# EAGLE library part ATX-PWR (library kmod-connectors)
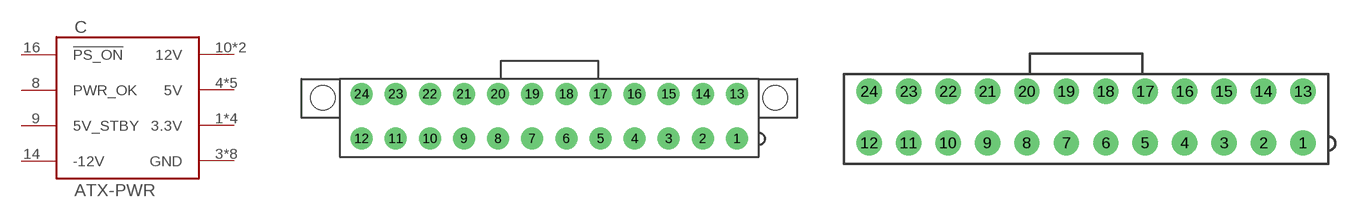
[diagram p13: symbol with the pads of ATX-24-VERT; footprints ATX-24-VERT, ATX-24-VERT-NOPEGS]

Designator prefix C

## ATX-PWRVERT  [ATX-24-VERT]
1  3.3V
2  3.3V
3  GND
4  5V
5  GND
6  5V
7  GND
8  PWR_OK
9  5V_STBY
10  12V
11  12V
12  3.3V
13  3.3V
14  -12V
15  GND
16  !PS_ON
17  GND
18  GND
19  GND
21  5V
22  5V
23  5V
24  GND

## ATX-PWRVERT-NOPEGS  [ATX-24-VERT-NOPEGS]
Pads as for ATX-24-VERT

## Footprint ATX-24-VERT (pad centres in mm)
Mini-Fit Jr. 5566 24-pin vertical header Suitable for ATX 24 pin connectors Verified the footprint for these parts http://www.digikey.com/product-detail/en/39-30-6247/WM17756-ND/1633828 http://www.digikey.com/product-detail/en/0442060007/WM9738-ND/3311018 http://www.digikey.com/product-detail/en/39-29-9246/WM3874-ND/2002680 Which have these drawings: http://www.molex.com/pdm_docs/sd/039306027_sd.pdf http://www.molex.com/pdm_docs/sd/442060007_sd.pdf http://www.molex.com/pdm_docs/sd/039299246_sd.pdf The right-angle connector specifies a 1.8mm drill but the vertical one specifies a 1.4mm drill, so just using a 1.8mm drill for now.
drill 1.8: 1 23.1,-5.5; 2 18.9,-5.5; 3 14.7,-5.5; 4 10.5,-5.5; 5 6.3,-5.5; 6 2.1,-5.5; 7 -2.1,-5.5; 8 -6.3,-5.5; 9 -10.5,-5.5; 10 -14.7,-5.5; 11 -18.9,-5.5; 12 -23.1,-5.5; 13 23.1,0; 14 18.9,0; 15 14.7,0; 16 10.5,0; 17 6.3,0; 18 2.1,0; 19 -2.1,0; 20 -6.3,0; 21 -10.5,0; 22 -14.7,0; 23 -18.9,0; 24 -23.1,0
hole 3 at 27.8,-0.46
hole 3 at -27.9,-0.46

## Footprint ATX-24-VERT-NOPEGS (pad centres in mm)
Mini-Fit Jr. 5566 / TE VAL-U-LOK 24-pin vertical header, without board pegs Suitable for ATX 24 pin connectors Verified the footprint for these parts http://www.digikey.com/product-detail/en/2-1586037-4/A30613-ND/701618 http://www.digikey.com/product-detail/en/0039281243/WM3811-ND/356033 Which have these drawings: http://www.te.com/commerce/DocumentDelivery/DDEController?Action=srchrtrv&DocNm=1586037&DocType=Customer+Drawing&DocLang=English http://www.molex.com/pdm_docs/sd/039281243_sd.pdf The right-angle connector specifies a 1.8mm drill but the vertical one specifies a 1.4mm drill, so just using a 1.8mm drill for now.
drill 1.8: 1 23.1,-5.5; 2 18.9,-5.5; 3 14.7,-5.5; 4 10.5,-5.5; 5 6.3,-5.5; 6 2.1,-5.5; 7 -2.1,-5.5; 8 -6.3,-5.5; 9 -10.5,-5.5; 10 -14.7,-5.5; 11 -18.9,-5.5; 12 -23.1,-5.5; 13 23.1,0; 14 18.9,0; 15 14.7,0; 16 10.5,0; 17 6.3,0; 18 2.1,0; 19 -2.1,0; 20 -6.3,0; 21 -10.5,0; 22 -14.7,0; 23 -18.9,0; 24 -23.1,0